# EAGLE library part LMV358 (library SparkFun-AnalogIC)
Jellybean rail-to-rail output op-amp
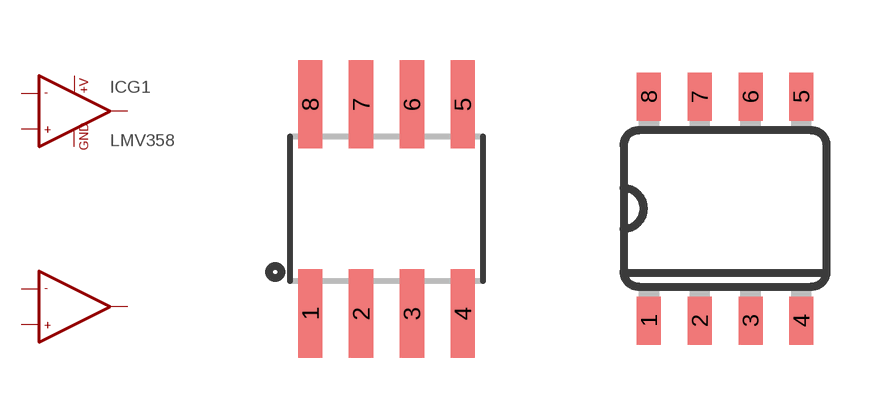
[diagram p14: symbol with the pads of SO08; footprints SO08, SO08-TIGHT]

Designator prefix IC; gates G1=OPAMP_2 G2=OPAMP_2_1

## LMV358SOIC (PROD_ID: IC-09657)  [SO08]
1  G1:OUT1  out
2  G1:-IN1  in
3  G1:+IN1  in
4  G1:GND  pwr
5  G2:+IN2  in
6  G2:-IN2  in
7  G2:OUT2  out
8  G1:+V  pwr

## LMV358SOICT (PROD_ID: IC-09657)  [SO08-TIGHT]
Pads as for SO08

## Footprint SO08 (pad centres in mm)
Small Outline Package Fits JEDEC packages (narrow SOIC-8)
smd 0.61 x 2.21: 1 -1.905,-2.616; 2 -0.635,-2.616; 3 0.635,-2.616; 4 1.905,-2.616; 5 1.905,2.616; 6 0.635,2.616; 7 -0.635,2.616; 8 -1.905,2.616

## Footprint SO08-TIGHT (pad centres in mm)
smd 0.6 x 1.2: 1 -1.905,-2.8; 2 -0.635,-2.8; 3 0.635,-2.8; 4 1.905,-2.8; 5 1.905,2.8; 6 0.635,2.8; 7 -0.635,2.8; 8 -1.905,2.8